# EAGLE library part TB6612 (library DigitalIC)
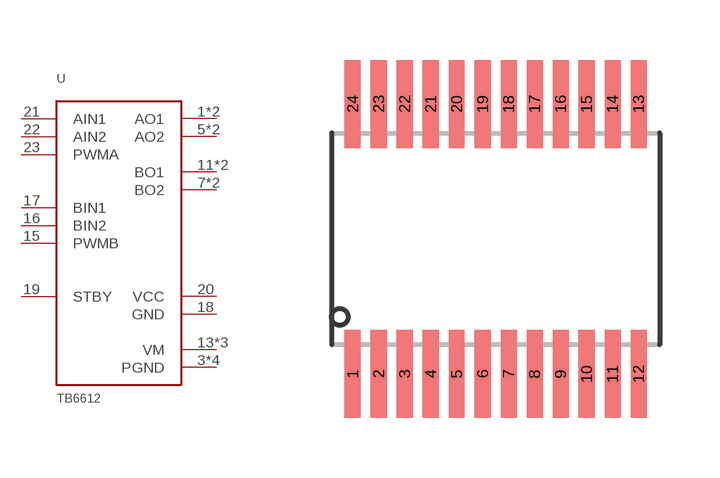
[diagram p2: symbol with the pads of 24SSOP; footprint 24SSOP]

Designator prefix -

## TB6612  [24SSOP]
1  AO1
2  AO1
3  PGND
4  PGND
5  AO2
6  AO2
7  BO2
8  BO2
9  PGND
10  PGND
11  BO1
12  BO1
13  VM
14  VM
15  PWMB
16  BIN2
17  BIN1
18  GND
19  STBY
20  VCC
21  AIN1
22  AIN2
23  PWMA
24  VM

## Footprint 24SSOP (pad centres in mm)
smd 0.4 x 2.2: 1 -3.575,-3.378; 2 -2.925,-3.378; 3 -2.275,-3.378; 4 -1.625,-3.378; 5 -0.975,-3.378; 6 -0.325,-3.378; 7 0.325,-3.378; 8 0.975,-3.378; 9 1.625,-3.378; 10 2.275,-3.378; 11 2.925,-3.378; 12 3.575,-3.378; 13 3.575,3.378; 14 2.925,3.378; 15 2.275,3.378; 16 1.625,3.378; 17 0.975,3.378; 18 0.325,3.378; 19 -0.325,3.378; 20 -0.975,3.378; 21 -1.625,3.378; 22 -2.275,3.378; 23 -2.925,3.378; 24 -3.575,3.378